# EAGLE library part SOCKET_6 (library HAVRM)
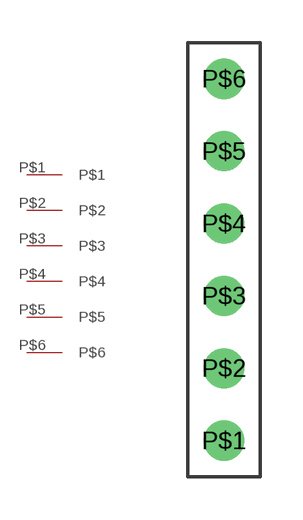
[diagram p3: symbol with the pads of SOCKET_6; footprint SOCKET_6]

Designator prefix -

## SOCKET_6  [SOCKET_6]
P$1  P$1
P$2  P$2
P$3  P$3
P$4  P$4
P$5  P$5
P$6  P$6

## Footprint SOCKET_6 (pad centres in mm)
drill 0.9: P$1 0,0; P$2 0,2.54; P$3 0,5.08; P$4 0,7.62; P$5 0,10.16; P$6 0,12.7